# Altium schematic symbol library ICs.SchLib: 134 symbols (part 7 of 7)
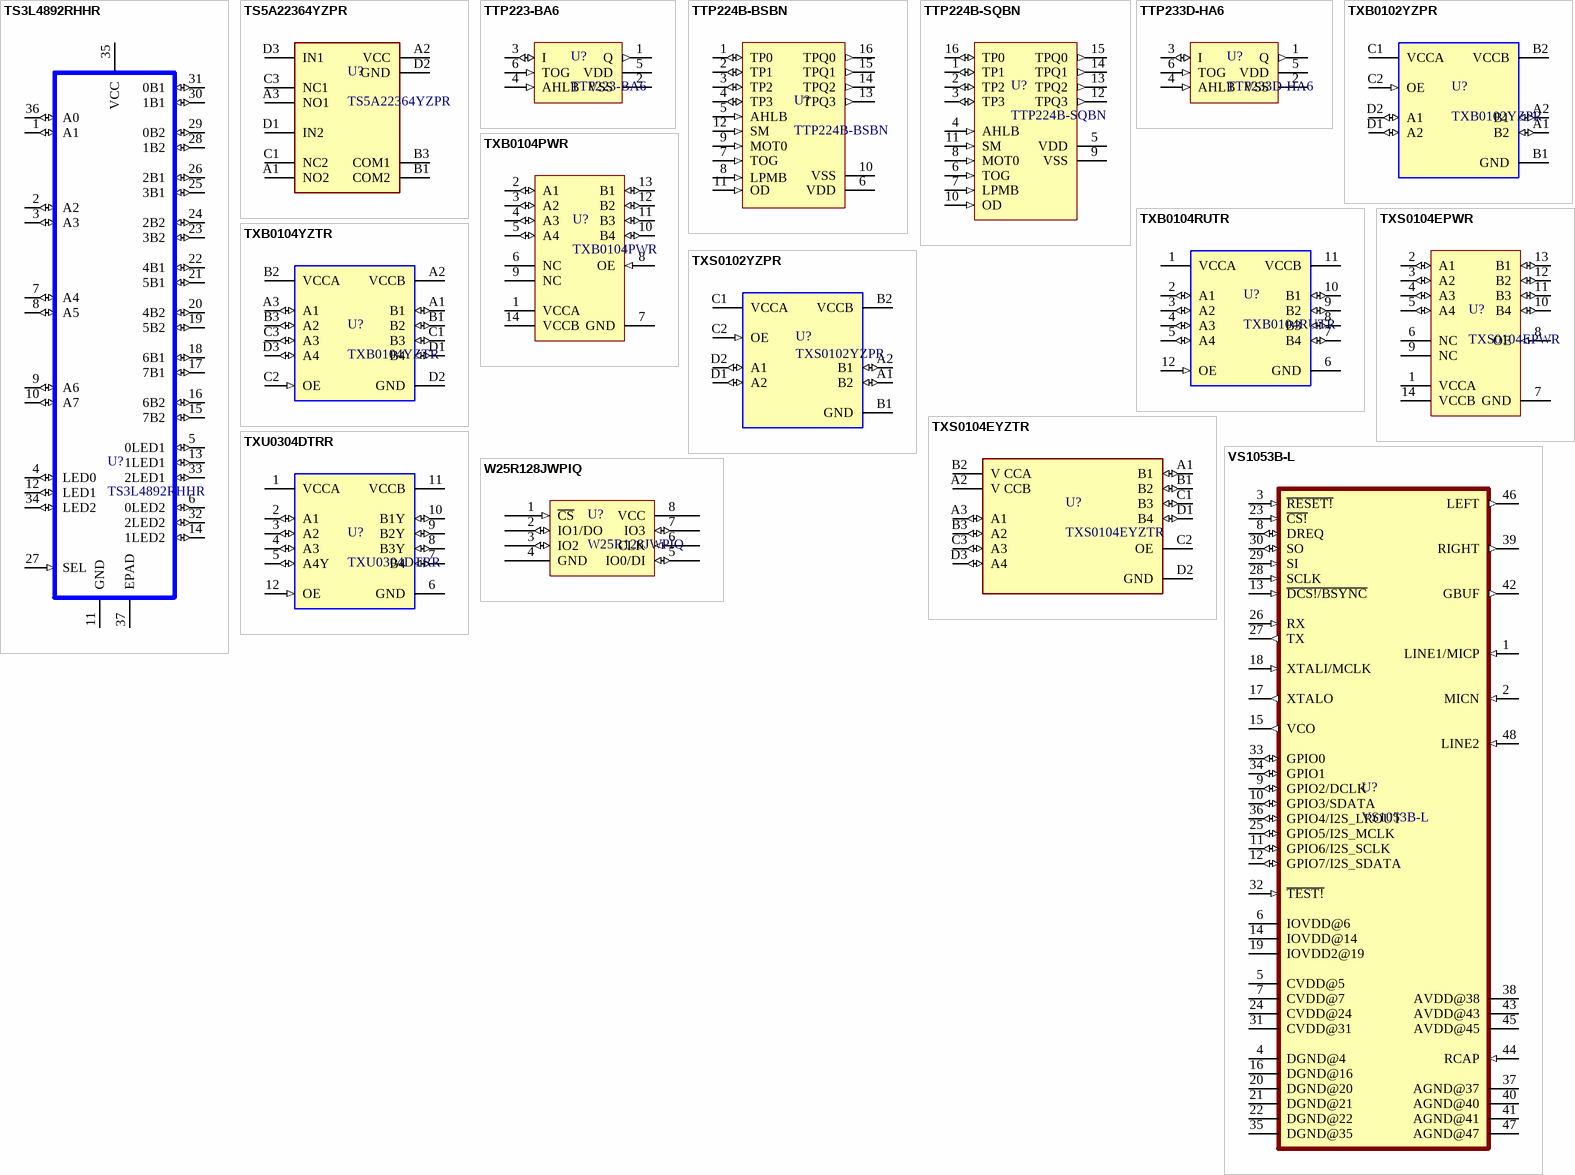
[diagram p32: symbols TS3L4892RHHR to W25R128JWPIQ]

## TXB0104PWR
designator U?
TEXAS INSTRUMENTS - TXB0104PWR. - IC, 4BIT VOLTAGE LEVEL XLATOR, TSSOP-14,; Propagation Delay: 4ns; Min Supply Voltage: 1.2V; Max Supply Voltage: 5.5V; Data Rate: 100Mbps; Number of Channels: 4; Logic Function: Translator; Turn-On Delay Time: 31ns; High Level Output Current: -20uA; Low Level Output Current: 20uA; Quiescent Current: 3.5uA; Nominal Supply Current: 5uA; Number of Circuits: 1; Channel Type: Bidirectional; Supplier 1: Digi-Key; Supplier Part Number 1: 296-21929-1-ND; Manufacturer: Texas Instruments; Manufacturer Part Number: TXB0104PWR; RoHS: Yes; Category: Logic ICs; Stock 1: 36343; Pricing 1: 1=0.92000, 10=0.82600, 25=0.78400, 100=0.64400, 250=0.60200, 500=0.53200, 1000=0.42000 (USD); Mount: Surface Mount; Case/Package: TSSOP; Number of Pins: 14; Weight: 0.002018oz; Min Operating Temperature: -40°C; Max Operating Temperature: 85°C; Packaging: Tape and Reel; Package Quantity: 2000; Number of Bits: 4; Number of Inputs: 4; Output Current: 20uA; Length: 5mm; Width: 4.4mm; Height: 1.15mm; Radiation Hardening: No; REACH SVHC: No SVHC; Lead Free: Lead Free; ComponentLink1URL: https://datasheet.ciiva.com/1508/1633692-1508723.pdf?src-supplier=Element14; ComponentLink1Description: https://datasheet.ciiva.com/1508/1633692-1508723.pdf?src-supplier=Element14; ComponentLink2URL: https://datasheet.ciiva.com/15096/getdatasheetpartid-48026-15096134.pdf?src-supplier=Verical; ComponentLink2Description: https://datasheet.ciiva.com/15096/getdatasheetpartid-48026-15096134.pdf?src-supplier=Verical; ComponentLink3URL: https://datasheet.ciiva.com/22653/1845221-22653354.pdf?src-supplier=Farnell; ComponentLink3Description: https://datasheet.ciiva.com/22653/1845221-22653354.pdf?src-supplier=Farnell; ComponentLink4URL: https://datasheet.ciiva.com/1508/1849862-1508724.pdf?src-supplier=Element14; ComponentLink4Description: https://datasheet.ciiva.com/1508/1849862-1508724.pdf?src-supplier=Element14; ComponentLink5URL: https://datasheet.ciiva.com/1899/txb0104-1899514.pdf?src-supplier=Digi-Key; ComponentLink5Description: https://datasheet.ciiva.com/1899/txb0104-1899514.pdf?src-supplier=Digi-Key; ComponentLink6URL: https://datasheet.ciiva.com/1899/txb0104-1899515.pdf?src-supplier=Digi-Key; ComponentLink6Description: https://datasheet.ciiva.com/1899/txb0104-1899515.pdf?src-supplier=Digi-Key; ComponentLink7URL: https://datasheet.ciiva.com/1899/txb0104-1899516.pdf?src-supplier=Digi-Key; ComponentLink7Description: https://datasheet.ciiva.com/1899/txb0104-1899516.pdf?src-supplier=Digi-Key; ComponentLink8URL: https://datasheet.ciiva.com/46395/1864432-46395886.pdf?src-supplier=Element14; ComponentLink8Description: https://datasheet.ciiva.com/46395/1864432-46395886.pdf?src-supplier=Element14; ComponentLink9URL: https://datasheet.ciiva.com/14287/txb0104-14287375.pdf?src-supplier=Avnet; ComponentLink9Description: https://datasheet.ciiva.com/14287/txb0104-14287375.pdf?src-supplier=Avnet
footprint PW0014A_M (SOP, 14-Leads, Body 5.1x4.5mm, Pitch 0.65mm, IPC Low Density)
pins: 1 VCCA (power) "A-port supply Voltage 1.2V=<VCCA=<3.6V and VCCA=<VCCB.", 2 A1 (io) "Input/output 1. Referenced to VCCA.", 3 A2 (io) "Input/output 2. Referenced to VCCA.", 4 A3 (io) "Input/output 3. Referenced to VCCA.", 5 A4 (io) "Input/output 4. Referenced to VCCA.", 6 NC "No connection. Not internally connected.", 7 GND (power) "Ground", 8 OE (in) "3-state output-mode enable. Pull OE low to place all outputs in 3-state mode.Referenced to VCCA.", 9 NC "No connection. Not internally connected.", 10 B4 (io) "Input/output 4. Referenced to VCCB.", 11 B3 (io) "Input/output 3. Referenced to VCCB.", 12 B2 (io) "Input/output 2. Referenced to VCCB.", 13 B1 (io) "Input/output 1. Referenced to VCCB.", 14 VCCB (power) "B-port supply Voltage 1.65V=<VCCB=<5.5V."

## TXB0104RUTR
designator U?
IC VOLT-LEVEL TRANSLATOR 12UQFN; Manufacturer: Texas Instruments; Translator Type: Voltage Level; Channel Type: Bidirectional; Number of Circuits: 1; Channels per Circuit: 4; Voltage - VCCA: 1.2 V ~ 3.6 V; Voltage - VCCB: 1.65 V ~ 5.5 V; Output Type: Tri-State, Non-Inverted; Data Rate: 100Mbps; Supplier 1: Digi-Key; Manufacturer Part Number: TXB0104RUTR; RoHS: RoHS Compliant; Category: Integrated Circuits (ICs); Stock 1: 15088; Pricing 1: 1=1.39, 10=1.246, 100=0.9713, 500=0.80238, 1000=0.63345 (USD); Packaging: Digi-Reel®; Part Status: Active; Input Signal: -; Output Signal: -; Operating Temperature: -40°C ~ 85°C (TA); Features: Auto-Direction Sensing; Mounting Type: Surface Mount; Package / Case: 12-UFQFN; Supplier Device Package: 12-UQFN (1.7x2); ComponentLink1URL: http://www.ti.com/lit/ds/symlink/txb0104.pdf; ComponentLink1Description: http://www.ti.com/lit/ds/symlink/txb0104.pdf; Supplier Part Number 1: 296-25888-6-ND
footprint QFN40P200X170X55-12N (QFN, 12-Leads, Body 2.00x1.70mm, Pitch 0.40mm, IPC Medium Density)
ibis TXB0104YZT (Model Description)
pins: 1 VCCA (power), 2 A1 (io), 3 A2 (io), 4 A3 (io), 5 A4 (io), 6 GND (power), 7 B4 (io), 8 B3 (io), 9 B2 (io), 10 B1 (io), 11 VCCB (power), 12 OE (in)

## TXB0104YZTR
designator U?
IC XLATR VOLT-LVL 4B ESD 12DSBGA; Manufacturer: Texas Instruments; Logic Function: Translator, Bidirectional; Input Type: Voltage; Data Rate: 100Mbps; Number of Channels: 4; Number of Outputs/Channel: 1; Differential - Input:Output: No/No; Propagation Delay (Max): 4ns; Voltage - Supply: 1.2 V ~ 3.6 V, 1.65 V ~ 5.5 V; Supplier 1: Digi-Key; Supplier Part Number 1: 296-24804-6-ND; Manufacturer Part Number: TXB0104YZTR; RoHS: RoHS Compliant; Category: Integrated Circuits (ICs); Stock 1: 7113; Pricing 1: 1=1.37, 10=1.102, 100=0.8837, 500=0.69822, 1000=0.64047 (EUR); Packaging: Digi-Reel®; Output Type: Voltage; Operating Temperature: -40°C ~ 85°C; Package / Case: 12-UFBGA, DSBGA; Supplier Device Package: 12-DSBGA (1.9x1.4); Mounting Type: Surface Mount; ComponentLink1URL: http://www.ti.com/lit/ds/symlink/txb0104.pdf; ComponentLink1Description: http://www.ti.com/lit/ds/symlink/txb0104.pdf
footprint BGA12C50P3X4_136X186X62 (BGA, 12-Leads, Body 1.36x1.86mmx0.63mm, Pitch 0.50mm)
pins: A1 B1 (io), A2 VCCB (power), A3 A1 (io), B1 B2 (io), B2 VCCA (power), B3 A2 (io), C1 B3 (io), C2 OE (in), C3 A3 (io), D1 B4 (io), D2 GND (power), D3 A4 (io)

## TXS0102YZPR
designator U?
IC VOLT-LEVEL TRANSLATOR 8-DSBGA; Manufacturer: Texas Instruments; Translator Type: Voltage Level; Channel Type: Bidirectional; Number of Circuits: 1; Channels per Circuit: 2; Voltage - VCCA: 1.65 V ~ 3.6 V; Voltage - VCCB: 2.3 V ~ 5.5 V; Output Type: Open Drain, Push-Pull; Data Rate: 24Mbps; Manufacturer Part Number: TXS0102YZPR; RoHS: RoHS Compliant; Category: Integrated Circuits (ICs); Stock 1: 11895; Pricing 1: 1=0.64, 10=0.566, 100=0.4333, 500=0.3433, 1000=0.20831 (GBP); Packaging: Digi-Reel®; Part Status: Active; Input Signal: -; Output Signal: -; Operating Temperature: -40°C ~ 85°C (TA); Features: Auto-Direction Sensing; Mounting Type: Surface Mount; Package / Case: 8-XFBGA, DSBGA; Supplier Device Package: 8-DSBGA, 8-WCSP (1.9x0.9); ComponentLink1URL: http://www.ti.com/lit/ds/symlink/txs0102.pdf; ComponentLink1Description: http://www.ti.com/lit/ds/symlink/txs0102.pdf; Supplier 1: DigiKey; Supplier Part Number 1: 296-21932-6-ND; Supplier 2: Mouser; Supplier Part Number 2: 595-TXS0102YZPR
footprint BGA8C50P2X4_89X189X50_2 (BGA, 8-Leads, Body 0,89x1,89mmx0,50mm, Pitch 0,50mm)
pins: A1 B2 (io), A2 B1 (io), B1 GND (power), B2 VCCB, C1 VCCA, C2 OE (in), D1 A2 (io), D2 A1 (io)

## TXS0104EPWR
designator U?
Voltage Level Translator Bidirectional 1 Circuit 4 Channel 24Mbps 14-TSSOP; Manufacturer: Texas Instruments; Supplier: Mouser; Supplier Part Number: 595-TXS0104EPWR; Manufacturer Part Number: TXS0104EPWR; RoHS: Yes; Category: Voltage Level Shifters; Stock: 24298; Pricing: 1=1.07, 10=0.915, 50=0.915, 100=0.705, 1000=0.492, 10000=0.412 (USD); ComponentLink1URL: https://datasheet.ciiva.com/15096/getdatasheetpartid-172988-15096218.pdf?src-supplier=Verical; ComponentLink1Description: https://datasheet.ciiva.com/15096/getdatasheetpartid-172988-15096218.pdf?src-supplier=Verical; ComponentLink2URL: https://datasheet.ciiva.com/14287/txs0104e-14287275.pdf?src-supplier=Avnet; ComponentLink2Description: https://datasheet.ciiva.com/14287/txs0104e-14287275.pdf?src-supplier=Avnet; ComponentLink3URL: https://datasheet.ciiva.com/1899/txs0104e-1899556.pdf?src-supplier=Digikey; ComponentLink3Description: https://datasheet.ciiva.com/1899/txs0104e-1899556.pdf?src-supplier=Digikey; ComponentLink4URL: https://datasheet.ciiva.com/1899/txs0104e-1899557.pdf?src-supplier=Digikey; ComponentLink4Description: https://datasheet.ciiva.com/1899/txs0104e-1899557.pdf?src-supplier=Digikey; ComponentLink5URL: https://datasheet.ciiva.com/1899/txs0104e-1899558.pdf?src-supplier=Digikey; ComponentLink5Description: https://datasheet.ciiva.com/1899/txs0104e-1899558.pdf?src-supplier=Digikey; ComponentLink6URL: https://datasheet.ciiva.com/48702/001073825-da-01-en-ic-4bit-non-inv-txs0104epwr-tssop-14-tid-48702635.pdf?src-supplier=Conrad; ComponentLink6Description: https://datasheet.ciiva.com/48702/001073825-da-01-en-ic-4bit-non-inv-txs0104epwr-tssop-14-tid-48702635.pdf?src-supplier=Conrad; Supplier 1: Mouser; Supplier Part Number 1: 595-TXS0104EPWR
footprint PW0014A_M (SOP, 14-Leads, Body 5.1x4.5mm, Pitch 0.65mm, IPC Low Density)
pins: 1 VCCA (power) "A-port supply Voltage 1.2V=<VCCA=<3.6V and VCCA=<VCCB.", 2 A1 (io) "Input/output 1. Referenced to VCCA.", 3 A2 (io) "Input/output 2. Referenced to VCCA.", 4 A3 (io) "Input/output 3. Referenced to VCCA.", 5 A4 (io) "Input/output 4. Referenced to VCCA.", 6 NC "No connection. Not internally connected.", 7 GND (power) "Ground", 8 OE (in) "3-state output-mode enable. Pull OE low to place all outputs in 3-state mode.Referenced to VCCA.", 9 NC "No connection. Not internally connected.", 10 B4 (io) "Input/output 4. Referenced to VCCB.", 11 B3 (io) "Input/output 3. Referenced to VCCB.", 12 B2 (io) "Input/output 2. Referenced to VCCB.", 13 B1 (io) "Input/output 1. Referenced to VCCB.", 14 VCCB (power) "B-port supply Voltage 1.65V=<VCCB=<5.5V."

## TXS0104EYZTR
designator U?
IC 4BIT BI V-LVL TRANSL 12-DSBGA; Manufacturer: Texas Instruments; Supplier: Mouser; Supplier Part Number: 595-TXS0104EYZTR; Manufacturer Part Number: TXS0104EYZTR; RoHS: Yes; Category: Voltage Level Shifters; Stock: 10550; Pricing: 1=1,14, 10=0,996, 50=0,996, 100=0,774, 1000=0,523, 10000=0,454 (USD); ComponentLink1URL: https://datasheet.ciiva.com/15096/getdatasheetpartid-555704-15096442.pdf?src-supplier=Verical; ComponentLink1Description: https://datasheet.ciiva.com/15096/getdatasheetpartid-555704-15096442.pdf?src-supplier=Verical; ComponentLink2URL: https://datasheet.ciiva.com/7430/1764531-7430089.pdf?src-supplier=Newark; ComponentLink2Description: https://datasheet.ciiva.com/7430/1764531-7430089.pdf?src-supplier=Newark; ComponentLink3URL: https://datasheet.ciiva.com/14287/txs0104e-14287685.pdf?src-supplier=Avnet; ComponentLink3Description: https://datasheet.ciiva.com/14287/txs0104e-14287685.pdf?src-supplier=Avnet; ComponentLink4URL: https://datasheet.ciiva.com/1899/txs0104e-1899763.pdf?src-supplier=Digi-Key; ComponentLink4Description: https://datasheet.ciiva.com/1899/txs0104e-1899763.pdf?src-supplier=Digi-Key; ComponentLink5URL: https://datasheet.ciiva.com/1899/txs0104e-1899764.pdf?src-supplier=Digi-Key; ComponentLink5Description: https://datasheet.ciiva.com/1899/txs0104e-1899764.pdf?src-supplier=Digi-Key; ComponentLink6URL: https://datasheet.ciiva.com/1899/txs0104e-1899765.pdf?src-supplier=Digi-Key; ComponentLink6Description: https://datasheet.ciiva.com/1899/txs0104e-1899765.pdf?src-supplier=Digi-Key; ComponentLink7URL: https://datasheet.ciiva.com/48701/001073846-da-01-en-ic-4bit-bi-v-l-txs0104eyztr-dsbga-12-tid-48701991.pdf?src-supplier=Conrad; ComponentLink7Description: https://datasheet.ciiva.com/48701/001073846-da-01-en-ic-4bit-bi-v-l-txs0104eyztr-dsbga-12-tid-48701991.pdf?src-supplier=Conrad; Supplier 1: Mouser; Supplier Part Number 1: 595-TXS0104EYZTR
footprint BGA12C50P3X4_136X186X62 (BGA, 12-Leads, Body 1.36x1.86mmx0.63mm, Pitch 0.50mm)
pins: A1 B1 (io), A2 V CCB (power), A3 A1 (io), B1 B2 (io), B2 V CCA (power), B3 A2 (io), C1 B3 (io), C2 OE, C3 A3 (io), D1 B4 (io), D2 GND (power), D3 A4 (io)

## TXU0304DTRR
designator U?
Four-channel fixed multidirectional level shifter 12-X2QFN -40 to 125; Manufacturer: Texas Instruments; Supplier: Mouser; Supplier Part Number: 595-TXU0304DTRR; Manufacturer Part Number: TXU0304DTRR; RoHS: No; Category: Integrated Circuits (ICs); Stock: 3346; Pricing: 1=0,85, 10=0,76, 50=0,76, 100=0,593, 1000=0,387, 10000=0,332 (USD); Supplier 1: Mouser; Supplier Part Number 1: 595-TXU0304DTRR
footprint SON50P100X40-12N (SON, 12-Leads, Body 1,70x1,00mm, Pitch 0,50mm, IPC Medium Density)
pins: 1 VCCA (power), 2 A1 (io), 3 A2 (io), 4 A3 (io), 5 A4Y (io), 6 GND (power), 7 B4 (io), 8 B3Y (io), 9 B2Y (io), 10 B1Y (io), 11 VCCB (power), 12 OE (in)

## VS1053B-L
designator U?
VS1053 - Ogg Vorbis / MP3 / AAC / WMA / FLAC / MIDI Audio Codec Chip
footprint CQFP50P900X900X160-48N (CQFP, 48-Leads, Body 9,00x9,00mm, Pitch 0,50mm, IPC Medium Density)
pins: 1 LINE1/MICP (in), 2 MICN (in), 3 ~{RESET!} (in), 4 DGND@4 (power), 5 CVDD@5 (power), 6 IOVDD@6 (power), 7 CVDD@7 (power), 8 DREQ (io), 9 GPIO2/DCLK (io), 10 GPIO3/SDATA (io), 11 GPIO6/I2S_SCLK (io), 12 GPIO7/I2S_SDATA (io), 13 ~{DCS!/BSYNC} (in), 14 IOVDD@14 (power), 15 VCO (out), 16 DGND@16 (power), 17 XTALO (out), 18 XTALI/MCLK (in), 19 IOVDD2@19 (power), 20 DGND@20 (power), 21 DGND@21 (power), 22 DGND@22 (power), 23 ~{CS!} (in), 24 CVDD@24 (power), 25 GPIO5/I2S_MCLK (io), 26 RX (in), 27 TX (out), 28 SCLK (in), 29 SI (in), 30 SO (io), 31 CVDD@31 (power), 32 ~{TEST!} (in), 33 GPIO0 (io), 34 GPIO1 (io), 35 DGND@35 (power), 36 GPIO4/I2S_LROUT (io), 37 AGND@37 (power), 38 AVDD@38 (power), 39 RIGHT (out), 40 AGND@40 (power), 41 AGND@41 (power), 42 GBUF (out), 43 AVDD@43 (power), 44 RCAP (in), 45 AVDD@45 (power), 46 LEFT (out), 47 AGND@47 (power), 48 LINE2 (in)

## W25R128JWPIQ
designator U?
128Mb Serial NOR Flash 104MHz SON8; Manufacturer: Winbond; Supplier: Digi-Key; Supplier Part Number: 256-W25R128JWPIQ-ND; Manufacturer Part Number: W25R128JWPIQ; RoHS: No; Category: Memory; Stock: 569; Pricing: 1=3,11, 10=2,8, 25=2,7564, 40=2,74925, 80=2,4565, 230=2,37574, 570=2,36711, 1140=2,20421 (USD); Supplier 1: Digi-Key; Supplier Part Number 1: 256-W25R128JWPIQ-ND
footprint SON127P600X80_HS-9N (SON, 8-Leads, Body 5.00x6.00mm, Pitch 1.27mm, Thermal Pad 4.30x4.22mm, IPC Medium Density)
pins: 1 ~{CS} (in), 2 IO1/DO (io), 3 IO2 (io), 4 GND (power), 5 IO0/DI (io), 6 CLK (in), 7 IO3 (io), 8 VCC (power)